# Altium footprint library UNO-TH_Rev3e2.PcbLib: 31 footprints (part 2 of 2)
Each footprint in its own frame and in the unit in brackets; x right, y up, seen from the top. Pads: shape width x height; smd on the part's side, far side on the other; paste and mask are expansions set on the pad; w line width, h text height; cw(c..) or ccw(c..) is an arc to the next point about the centre after c.
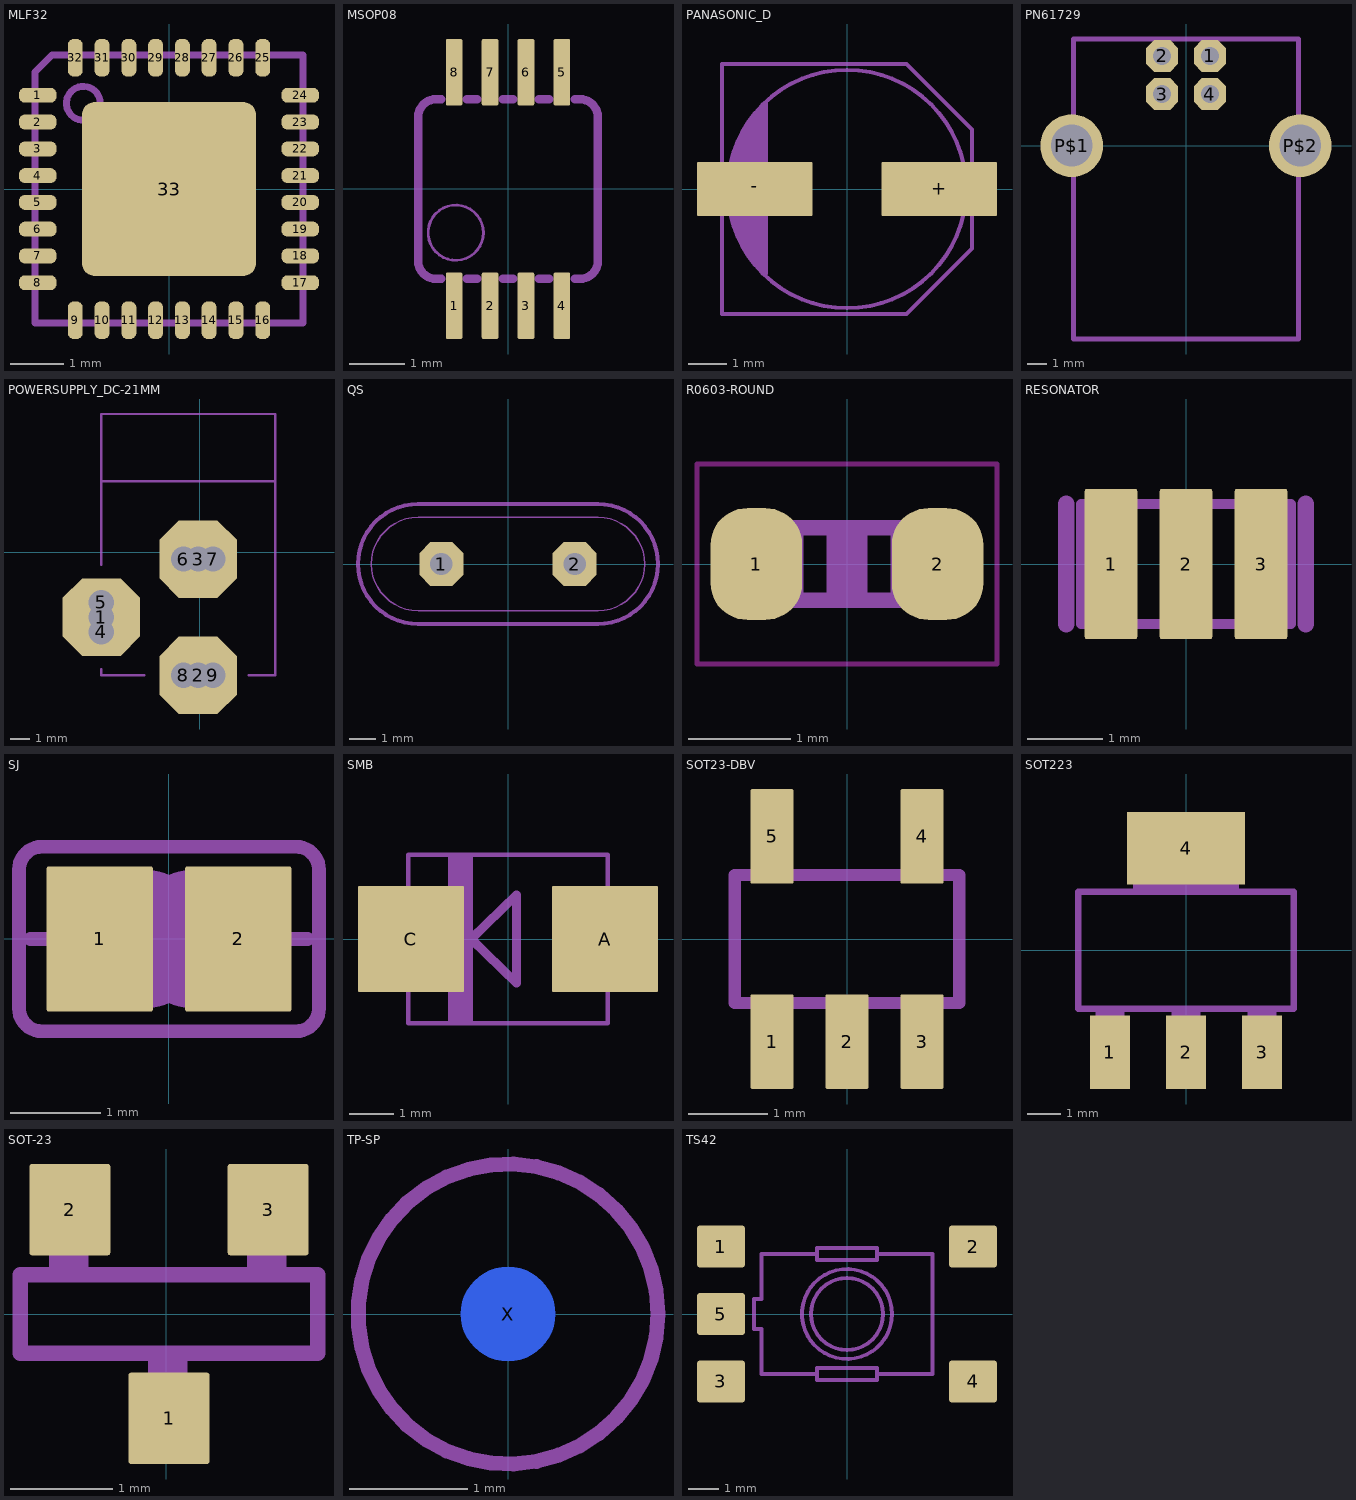
[diagram p1: the footprints below, top view; thin cyan lines are the x and y axes]

## MLF32 [mil] "MLF32"
pads (33):
  rrect80% 27.56x11.02 smd: 1(-96.46,68.9) 2(-96.46,49.21) 3(-96.46,29.53) 4(-96.46,9.84) 5(-96.46,-9.84) 6(-96.46,-29.53) 7(-96.46,-49.21) 8(-96.46,-68.9) 17(96.46,-68.9) 18(96.46,-49.21) 19(96.46,-29.53) 20(96.46,-9.84) 21(96.46,9.84) 22(96.46,29.53) 23(96.46,49.21) 24(96.46,68.9)
  rrect80% 11.02x27.56 smd: 9(-68.9,-96.46) 10(-49.21,-96.46) 11(-29.53,-96.46) 12(-9.84,-96.46) 13(9.84,-96.46) 14(29.53,-96.46) 15(49.21,-96.46) 16(68.9,-96.46) 25(68.9,96.46) 26(49.21,96.46) 27(29.53,96.46) 28(9.84,96.46) 29(-9.84,96.46) 30(-29.53,96.46) 31(-49.21,96.46) 32(-68.9,96.46)
  rrect15% 128.11x128.11 smd paste+0 mask+0: 33(0,0)
Top Paste:
  region: -25,-25 -25,25 25,25 25,-25
Top Solder:
  region: 0,52.5 5.17,52.5 15.31,50.48 24.87,46.52 33.47,40.78 40.78,33.47 46.52,24.87 50.48,15.31 52.5,5.17 52.5,0 52.5,-5.17 50.48,-15.31 46.52,-24.87 40.78,-33.47 33.47,-40.78 24.87,-46.52 15.31,-50.48 5.17,-52.5 0,-52.5 -5.17,-52.5 -15.31,-50.48 -24.87,-46.52 -33.47,-40.78 -40.78,-33.47 -46.52,-24.87 -50.48,-15.31 -52.5,-5.17 -52.5,0 -52.5,5.17 -50.48,15.31 -46.52,24.87 -40.78,33.47 -33.47,40.78 -24.87,46.52 -15.31,50.48 -5.17,52.5
Mechanical 7:
  circle w5: c-62.99,62.99 r12.45
  lines w5: -98.43,-98.43 98.43,-98.43 98.43,98.43 -85.93,98.43 -98.43,85.93 -98.43,-98.43
  text "1" at -122.05,78.74 h49.6

## MSOP08 [mil] "MSOP08"
pads (8):
  rrect16% 11.81x47.24 smd: 1(-38.43,-83.19) 2(-12.83,-83.19) 3(12.76,-83.19) 4(38.35,-83.19) 5(38.35,83.15) 6(12.76,83.15) 7(-12.83,83.15) 8(-38.43,83.15)
Mechanical 3:
  region: -43.21,63.95 -43.21,92.74 -33.61,92.74 -33.61,63.95
  region: -17.62,63.95 -17.62,92.74 -8.02,92.74 -8.02,63.95
  region: 7.97,63.95 7.97,92.74 17.57,92.74 17.57,63.95
  region: 33.56,63.95 33.56,92.74 43.16,92.74 43.16,63.95
  region: -43.21,-92.79 -43.21,-64 -33.61,-64 -33.61,-92.79
  region: -17.62,-92.79 -17.62,-64 -8.02,-64 -8.02,-92.79
  region: 7.97,-92.79 7.97,-64 17.57,-64 17.57,-92.79
  region: 33.56,-92.79 33.56,-64 43.16,-64 43.16,-92.79
Mechanical 7:
  circle w2: c-37.23,-31.13 r19.69
  lines w6: -52.8,-64.02 -47.4,-64.02 ; -51.22,-64.02 cw(c-51.22,-51.22) -64.02,-51.22 -64.02,51.14 cw(c-51.22,51.14) -51.22,63.94 -47.4,63.94 ; -29.41,-64.02 -21.81,-64.02 ; -29.41,63.94 -21.81,63.94 ; -3.82,-64.02 3.78,-64.02 ; -3.82,63.94 3.78,63.94 ; 21.77,-64.02 29.37,-64.02 ; 21.77,63.94 29.37,63.94 ; 47.36,-64.02 51.14,-64.02 ccw(c51.14,-51.22) 63.94,-51.22 63.94,51.14 ccw(c51.14,51.14) 51.14,63.94 47.36,63.94

## PANASONIC_D [mm] "PANASONIC_D"
pads (2):
  rrect3% 3x1.4 smd: +(2.4,0) -(-2.4,0)
Mechanical 3:
  circle w0.102: c0,0 r3.1
  region: -2.099,2.292 -2.644,1.627 -2.949,0.914 -3.101,0 -2.949,-0.966 -2.593,-1.678 -2.099,-2.295 -2.099,2.1
  region: 3.05,-0.35 3.05,0.35 3.65,0.35 3.65,-0.35
  region: -3.65,-0.35 -3.65,0.35 -3.05,0.35 -3.05,-0.35
  lines w0.102: -2.1,-2.2 -2.1,2.25 ; -3.25,-3.25 -3.25,3.25 1.55,3.25 3.25,1.55 3.25,-1.55 1.55,-3.25 -3.25,-3.25
Mechanical 7:
  lines w0.102: -3.25,-0.95 -3.25,-3.25 1.55,-3.25 3.25,-1.55 3.25,-0.95 ; -3.25,0.95 -3.25,3.25 1.55,3.25 3.25,1.55 3.25,0.95 ; -2.95,-0.95 ccw(c0,0) 2.95,-0.95 ; -2.95,0.95 cw(c0,0) 2.95,0.95

## PN61729 [mil] "PN61729"
pads (6):
  oct 66x66 / inner round 0 / far side oct 66x66 hole 37.4: 1(49.21,185.43) 2(-49.21,185.43) 3(-49.21,106.69) 4(49.21,106.69)
  round 129.91 / inner round 0 / far side round 129.91 hole 86.61: P$1(-236.22,0) P$2(236.22,0)
Mechanical 7:
  lines w10: -232.28,-399.61 -232.28,220.47 232.28,220.47 232.28,-399.61 -232.28,-399.61

## POWERSUPPLY_DC-21MM [mil] "POWERSUPPLY_DC-21MM"
pads (9):
  oct 157.48x157.48 / inner round 0 / far side oct 157.48x157.48 hole 51.18: 1(-200,-132) 2(-3,-250) 3(-3,-14)
  round 76.77 / inner round 0 / far side round 76.77 hole 51.18: 4(-200,-162) 5(-200,-102) 6(-33,-14) 7(27,-14) 8(-33,-250) 9(27,-250)
Mechanical 7:
  lines w5: -200,-237.5 -200,-250 -112.5,-250 ; -200,-25 -200,281 154,281 154,144 ; -199,144 154,144 ; 100,-250 154,-250 154,144

## QS [mil] "QS"
pads (2):
  oct 66x66 / inner round 0 / far side oct 66x66 hole 33.46: 1(-100,0) 2(100,0)
Mechanical 7:
  lines w2: -135,-70 cw(c-135,0) -135,70 135,70 cw(c135,0) 135,-70 -135,-70
  lines w6: -135,-90 cw(c-135,0) -135,90 135,90 cw(c135,0) 135,-90 -135,-90

## R0603-ROUND [mil] "R0603-ROUND"
pads (2):
  rrect80% 35.37x43.31 smd: 1(-35,0) 2(35,0)
Top Layer keep-out:
  lines w2: -57.99,-38.7 57.99,-38.7 57.99,38.7 -57.99,38.7 -57.99,-38.7
Mechanical 3:
  region: 17,-17 17,17 33,17 33,-17
  region: -33,-17 -33,17 -17,17 -17,-17
  lines w6: -17.01,-14.02 17.01,-14.02 ; -17.01,14.02 17.01,14.02
Top Glue Points:
  region: -7.87,-15.75 -7.87,15.75 7.87,15.75 7.87,-15.75

## RESONATOR [mm] "RESONATOR"
pads (3):
  rrect7% 0.7x2 smd: 1(-1,0) 2(0,0) 3(1,0)
Mechanical 3:
  lines w0.127: -1.4,-0.8 -1.4,0.8 1.4,0.8 1.4,-0.8 -1.4,-0.8
Mechanical 7:
  lines w0.22: -1.6,-0.8 -1.6,0.8 ; 1.6,-0.8 1.6,0.8

## SJ [mil] "SJ"
pads (2):
  rrect4% 46x63 smd: 1(-30,0) 2(30,0)
Top Solder:
  region: -3,-36 -3,36 3,36 3,-36
Mechanical 3:
  lines w6: -60,0 -40,0 ; 40,0 60,0
  lines w50: -10,-5 cw(c-10,0) -10,5 ; 10,-5 ccw(c10,0) 10,5
Mechanical 7:
  lines w6: -65,-30 ccw(c-55,-30) -55,-40 55,-40 ccw(c55,-30) 65,-30 65,30 ccw(c55,30) 55,40 -55,40 ccw(c-55,30) -65,30 -65,-30

## SMB [mil] "SMB"
pads (2):
  rrect2% 94.49x94.49 smd: A(86.61,0) C(-86.61,0)
Mechanical 3:
  region: -53.15,-74.8 -53.15,74.8 -31.5,74.8 -31.5,-74.8
  region: 89,-43 89,43 110,43 110,-43
  region: -110,-43 -110,43 -89,43 -89,-43
  lines w4: -89,-75 -89,75 ; 89,-75 89,75
Mechanical 7:
  lines w4: -89,-75 89,-75 ; -89,75 89,75
  lines w8: -32.68,0 7.6,-39.37 7.6,39.37 -32.68,0

## SOT23-DBV [mil] "SOT23-DBV"
pads (5):
  rrect9% 21.65x47.24 smd: 1(-37.4,-51.18) 2(0,-51.18) 3(37.4,-51.18) 4(37.4,51.18) 5(-37.4,51.18)
Mechanical 3:
  region: -47.24,-59.06 -47.24,-33.46 -27.56,-33.46 -27.56,-59.06
  region: -9.84,-59.06 -9.84,-33.46 9.84,-33.46 9.84,-59.06
  region: 27.56,-59.06 27.56,-33.46 47.24,-33.46 47.24,-59.06
  region: 27.56,33.46 27.56,59.06 47.24,59.06 47.24,33.46
  region: -47.24,33.46 -47.24,59.06 -27.56,59.06 -27.56,33.46
  lines w6: -55.98,-31.89 55.98,-31.89 ; -55.98,31.89 55.98,31.89
Mechanical 7:
  lines w6: -52.28,-31.89 -55.98,-31.89 -55.98,31.89 -52.28,31.89 ; -20.55,-31.89 -16.85,-31.89 ; -20.55,31.89 20.55,31.89 ; 16.85,-31.89 20.55,-31.89 ; 52.28,-31.89 55.98,-31.89 55.98,31.89 52.28,31.89

## SOT223 [mil] "SOT223"
pads (4):
  rrect4% 48x88 smd: 1(-91,-122) 2(0,-122) 3(91,-122)
  rrect2% 141.73x86.61 smd: 4(0,122.01)
Mechanical 3:
  region: -63,71 -63,144 63,144 63,71
  region: -17,-144 -17,-71 17,-71 17,-144
  region: -108,-144 -108,-71 -74,-71 -74,-144
  region: 74,-144 74,-71 108,-71 108,-144
  region: -63,71 -63,144 63,144 63,71
  region: -17,-144 -17,-71 17,-71 17,-144
  region: -108,-144 -108,-71 -74,-71 -74,-144
  region: 74,-144 74,-71 108,-71 108,-144
Mechanical 7:
  lines w8: -129,-70 129,-70 129,70 -129,70 -129,-70
  text "3" at 40.19,-170 h49.6
  text "4" at 75,100 h49.6
  text "1" at -135.93,-170 h49.6
  text "2" at -50.81,-170.37 h49.6

## SOT-23 [mil] "SOT-23"
pads (3):
  rrect6% 31x35 smd: 1(1,-40) 2(-37,40) 3(39,40)
Mechanical 3:
  region: 31,17 31,37 46,37 46,17
  region: -45,17 -45,37 -30,37 -30,17
  region: -7,-37 -7,-17 8,-17 8,-37
Mechanical 7:
  lines w6: -56,-15 58,-15 58,15 -56,15 -56,-15

## TP-SP [mil] "TP-SP"
pads (1):
  rrect100% 31.5x31.5 smd far side paste+0: X(0,0)
Mechanical 18:
  circle w5: c0,0 r50

## TS42 [mil] "TS42"
pads (5):
  rrect15% 62.99x55.12 smd: 1(-165.35,88.58) 2(165.35,88.58) 3(-165.35,-88.58) 4(165.35,-88.58)
  rrect15% 62.99x55.12 smd paste+0: 5(-165.35,0)
Top Paste:
  region: -185,-15 -185,15 -150,15 -150,-15
Mechanical 7:
  circle w5: c0,0 r47.24
  circle w5: c0,0 r59.06
  lines w5: -39.37,-78.74 -112.2,-78.74 -112.2,-19.69 -122.05,-19.69 -122.05,19.69 -112.2,19.69 -112.2,78.74 -39.37,78.74 ; -39.37,-78.74 -39.37,-86.61 39.37,-86.61 39.37,-78.74 ; -39.37,-78.74 -39.37,-70.87 39.37,-70.87 39.37,-78.74 ; -39.37,78.74 -39.37,70.87 39.37,70.87 39.37,78.74 ; -39.37,78.74 -39.37,86.61 39.37,86.61 39.37,78.74 ; 39.37,-78.74 112.2,-78.74 112.2,78.74 39.37,78.74